# EAGLE library part NRF (library nrf)
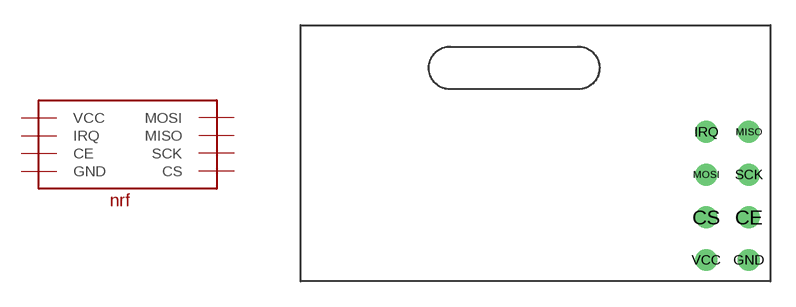
[diagram p0: symbol with the pads of NRF; footprint NRF]

Designator prefix -

## NRF  [NRF]
CE  CE
CS  CS
GND  GND
IRQ  IRQ
MISO  MISO
MOSI  MOSI
SCK  SCK
VCC  VCC

## Footprint NRF (pad centres in mm)
drill 0.8: CE 26.67,3.81; CS 24.13,3.81; GND 26.67,1.27; IRQ 24.13,8.89; MISO 26.67,8.89; MOSI 24.13,6.35; SCK 26.67,6.35; VCC 24.13,1.27